# Altium footprint library 采样电阻0.005R.PcbLib: 1 footprints
Each footprint in its own frame and in the unit in brackets; x right, y up, seen from the top. Pads: shape width x height; smd on the part's side, far side on the other; paste and mask are expansions set on the pad; w line width, h text height; cw(c..) or ccw(c..) is an arc to the next point about the centre after c.
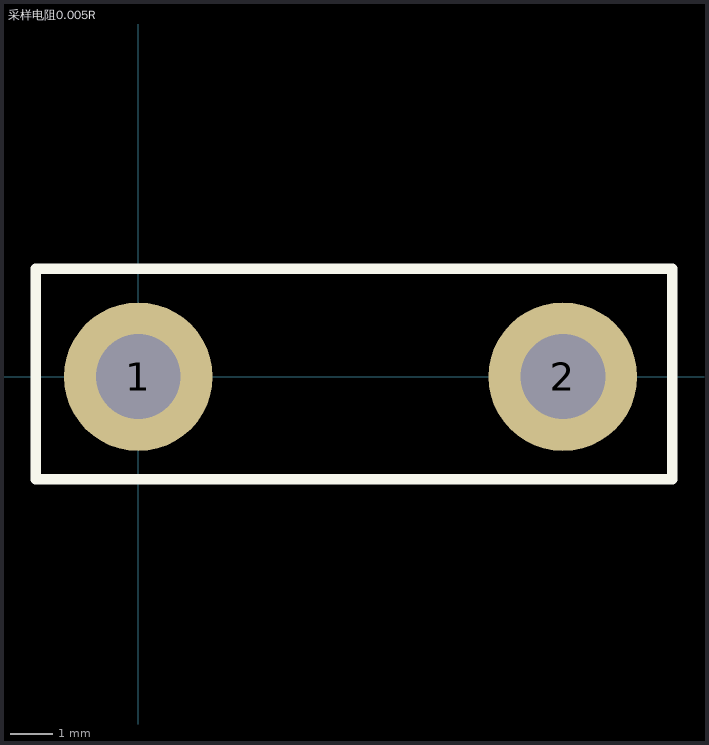
[diagram p0: the footprint, top view; thin cyan lines are the x and y axes]

## 采样电阻0.005R [mm]
pads (2):
  round 3.5 hole 2: 1(0,0) 2(10,0)
Top Overlay:
  lines w0.254: -2.413,-2.413 12.573,-2.413 12.573,2.54 -2.413,2.54 -2.413,-2.413